# Altium schematic symbol library pads.SchLib: 1 symbol
Pins are listed as number, name and electrical type; pins without a type are passive.

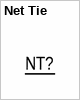
[diagram p0: symbol Net Tie]

## Net Tie
designator NT?  (net tie, no BOM)
Net Tie
footprint NetTie_0.2_0.3 (SMD Net Tie)
footprint NetTie_0.2_0.5 (SMD Net Tie)
footprint NetTie_0.2_0.7 (SMD Net Tie)
footprint NetTie_0.2_1.0 (SMD Net Tie)
footprint NetTie_0.5_0.3 (SMD Net Tie)
footprint NetTie_0.5_0.5 (SMD Net Tie)
footprint NetTie_0.5_0.7 (SMD Net Tie)
footprint NetTie_0.5_1.0 (SMD Net Tie)
pins: 1, 2
1 alternate drawing of the same symbol